# Altium schematic symbol library 2N7000.SchLib: 1 symbol
Pins are listed as number, name and electrical type; pins without a type are passive.

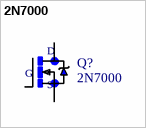
[diagram p0: symbol 2N7000]

## 2N7000
designator Q?
MOSFETs- Power and Small Signal 60V 200mA N-Channel No-Cancel/No-Return; MF: STMicroelectronics; MP: 2N7000; SnapEDA_Link: https://www.snapeda.com/parts/2N7000/STMicroelectronics/view-part/?ref=snap; Availability: Unavailable; Package: TO-92 ON Semiconductor; Price: None; Value: *
footprint *TO-92
pins: 1 S, 2 G, 3 D